# EAGLE library part 615032137821 (library 615008185221_Eagle_WR-MJ_rev20b)
WR-MJ Modular Jack Horizontal Shielded Ganged 4 Ports 8P8C Tab Down KIND PROPERTIES Quality Class:500 Mating cycles General Information Operating Temperature:-40 up to +85 °C Compliance:RoHS Electrical Properties IR1:1.5A Working Voltage: 120V (AC) Withstanding Voltage:1000V (AC) Contact Resistance:20mΩ RISO:500 MΩ Material Properties Insulator MateriaL:PBT Insulator Flammability Rating:UL94 V-0 Color:Black Contact Material:Copper Alloy Contact Plating:Selective Gold Contact Type:Stamped Shielding Material:Bronze Shielding Plating:Nickel Packaging Properties Packaging:Tray <https://www.we-online.com/catalog/media/o33145v209%20Family_WR-MJ_615032137821.jpg> Details see: https://www.we-online.com/catalog/en/MJ_HORIZONTAL_SHIELDED_GANGED_4_PORTS_8P8C_TAB_DOWN/ Updated by Yingchun,Shan 2020-01-02 2020(C) Würth Elektronik
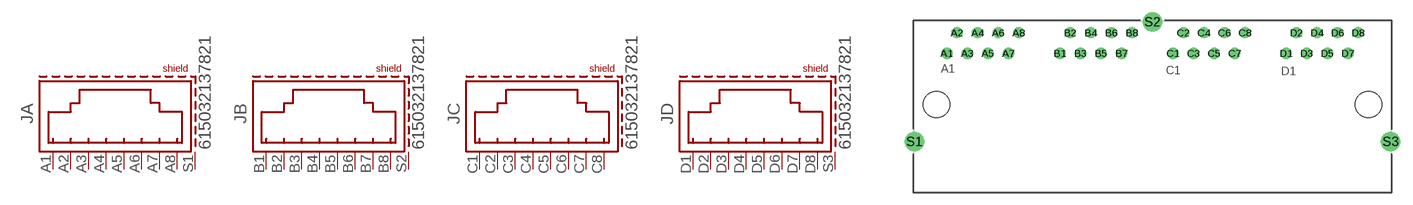
[diagram p0: symbol with the pads of 615032137821; footprint 615032137821]

Designator prefix J; gates A=8P8C_S B=8P8C_S D=8P8C_S C=8P8C_S1

## 615032137821 (DATASHEET-URL: https://www.we-online.com/catalog/datasheet/615032137821.pdf; MOUNT: THT; PART-NUMBER: 615032137821; TYPE: Horizontal; VALUE: 615032137821; XPXC: 8P8C)  [615032137821]
A1  A:8  pas
A2  A:7  pas
A3  A:6  pas
A4  A:5  pas
A5  A:4  pas
A6  A:3  pas
A7  A:2  pas
A8  A:1  pas
B1  B:8  pas
B2  B:7  pas
B3  B:6  pas
B4  B:5  pas
B5  B:4  pas
B6  B:3  pas
B7  B:2  pas
B8  B:1  pas
C1  C:8  pas
C2  C:7  pas
C3  C:6  pas
C4  C:5  pas
C5  C:4  pas
C6  C:3  pas
C7  C:2  pas
C8  C:1  pas
D1  D:8  pas
D2  D:7  pas
D3  D:6  pas
D4  D:5  pas
D5  D:4  pas
D6  D:3  pas
D7  D:2  pas
D8  D:1  pas
S1  A:SHIELD  pas
S2  B:SHIELD  pas
S3  D:SHIELD  pas

## Footprint 615032137821 (pad centres in mm)
WR-MJ Horizontal Shielded Ganged 4 Ports 8P8C Modular Jack Tab Down, 32 Pins
drill 0.9: A1 -25.4,6.58; A2 -24.13,9.12; A3 -22.86,6.58; A4 -21.59,9.12; A5 -20.32,6.58; A6 -19.05,9.12; A7 -17.78,6.58; A8 -16.51,9.12; B1 -11.43,6.58; B2 -10.16,9.12; B3 -8.89,6.58; B4 -7.62,9.12; B5 -6.35,6.58; B6 -5.08,9.12; B7 -3.81,6.58; B8 -2.54,9.12; C1 2.54,6.58; C2 3.81,9.12; C3 5.08,6.58; C4 6.35,9.12; C5 7.62,6.58; C6 8.89,9.12; C7 10.16,6.58; C8 11.43,9.12; D1 16.51,6.58; D2 17.78,9.12; D3 19.05,6.58; D4 20.32,9.12; D5 21.59,6.58; D6 22.86,9.12; D7 24.13,6.58; D8 25.4,9.12
drill 1.6: S1 -29.405,-4.34; S2 0,10.47; S3 29.405,-4.34
hole 3.25 at -26.67,0.23
hole 3.25 at 26.67,0.23